# Altium footprint library Passive.PcbLib: 36 footprints (part 3 of 3)
Each footprint in its own frame and in the unit in brackets; x right, y up, seen from the top. Pads: shape width x height; smd on the part's side, far side on the other; paste and mask are expansions set on the pad; w line width, h text height; cw(c..) or ccw(c..) is an arc to the next point about the centre after c.
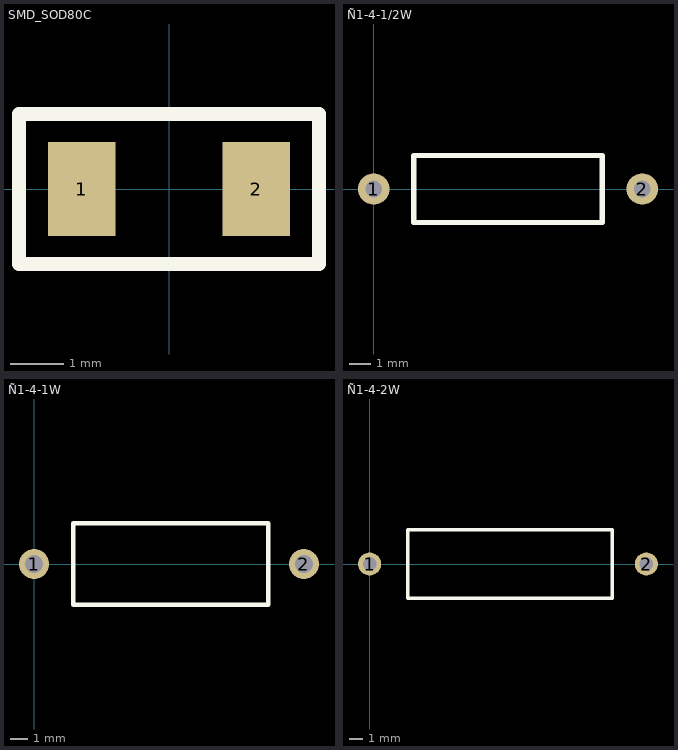
[diagram p2: the footprints below, top view; thin cyan lines are the x and y axes]

## SMD_SOD80C [mm]
pads (2):
  rect 1.25x1.75 smd: 1(-1.625,0) 2(1.625,0)
Top Overlay:
  lines w0.254: -2.794,-1.397 2.794,-1.397 2.794,1.397 -2.794,1.397 -2.794,-1.397

## Ñ1-4-1/2W [mm]
pads (2):
  round 1.5 hole 0.8: 1(0,0) 2(12.8,0)
Top Overlay:
  lines w0.254: 1.9,-1.6 10.9,-1.6 10.9,1.6 1.9,1.6 1.9,-1.6
3D body "User Library-RES-1_5W.STEP": height 5.5, standoff -1, extent -0.24,-1.75 13,1.75

## Ñ1-4-1W [mm]
pads (2):
  round 1.7 hole 1: 1(0,0) 2(15.2,0)
Top Overlay:
  lines w0.254: 2.2,-2.3 13.2,-2.3 13.2,2.3 2.2,2.3 2.2,-2.3
3D body "User Library-RES-1W.STEP": height 7, standoff -1, extent -0.34,-2.5 15.6,2.5

## Ñ1-4-2W [mm]
pads (2):
  round 1.7 hole 1: 1(0,0) 2(20.3,0)
Top Overlay:
  lines w0.254: 2.8,-2.5 17.8,-2.5 17.8,2.5 2.8,2.5 2.8,-2.5
3D body "User Library-RES-2W.STEP": height 7.5, standoff -1, extent -0.32,-2.75 20.7,2.75